# EAGLE library part 79107-06 (library untitled)
RECEPTACAL
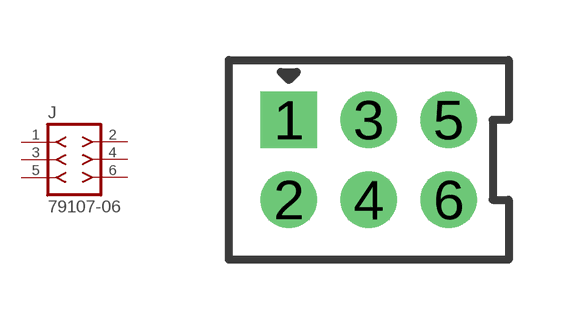
[diagram p137: symbol with the pads of 79107-06; footprint 79107-06]

Designator prefix J

## 79107-06  [79107-06]
1  1  pas
2  2  pas
3  3  pas
4  4  pas
5  5  pas
6  6  pas

## Footprint 79107-06 (pad centres in mm)
RECEPTACAL Dual Row, Vertical, Through-Hole
drill 0.914 square: 1 -2,1
drill 0.914 round: 2 -2,-1; 3 0,1; 4 0,-1; 5 2,1; 6 2,-1